# Altium footprint library 750315038.PcbLib: 1 footprints
Each footprint in its own frame and in the unit in brackets; x right, y up, seen from the top. Pads: shape width x height; smd on the part's side, far side on the other; paste and mask are expansions set on the pad; w line width, h text height; cw(c..) or ccw(c..) is an arc to the next point about the centre after c.
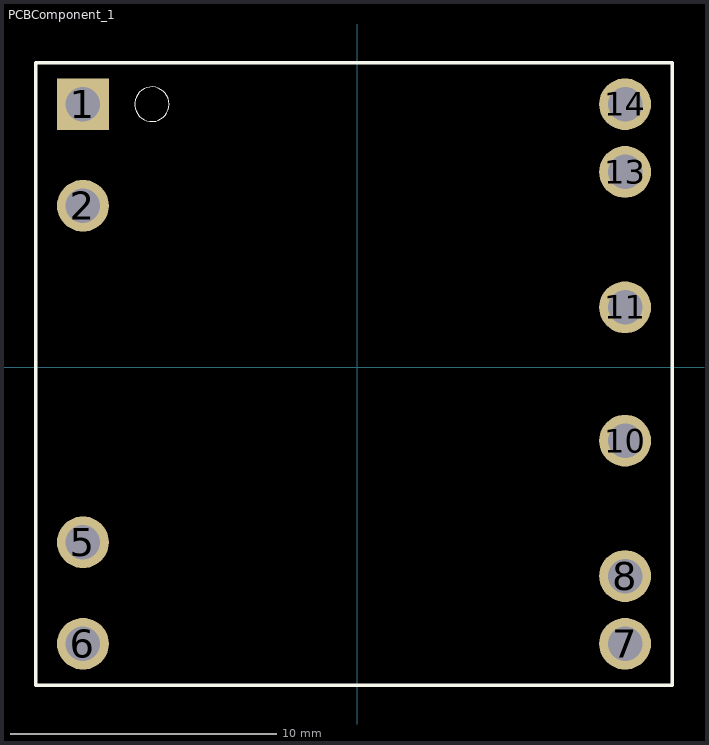
[diagram p0: the footprint, top view; thin cyan lines are the x and y axes]

## PCBComponent_1 [mil]
pads (10):
  rect 76.5x76.5 hole 51: 1(-405.5,388.5)
  round 76.5 hole 51: 2(-405.5,238.5) 5(-405.5,-258.5) 6(-405.5,-408.5) 7(395.5,-408.5) 8(395.5,-308.5) 10(395.5,-108.5) 11(395.5,88.5) 13(395.5,288.5) 14(395.5,388.5)
Top Overlay:
  circle w0: c-303.5,388.5 r25.5
  lines w5: -475,-470 465,-470 465,450 -475,450 -475,-470
Mechanical 13:
  text "1" at -525,363 h50
  text "6" at -525,-434 h50
  text "7" at 515,-434 h50
  text "14" at 515,363 h50